# EAGLE library part 3-6437285-0 (library 3-6437285-0)
Body Features: Primary Product Color Black | Configuration Features: PCB Mount Orientation Horizontal | Number of Rows 4 | Number of Signal Positions 34 | Number of Positions 34 | Contact Features: Contact Size 1mm | Contact Type Pin | Mating Pin Diameter .039 INCH | Contact Mating Area Plating Material Gold | Mating Pin Diameter 1 MM | Dimensions: Profile Height from PCB .843 INCH | Connector Length 1.791 INCH | Profile Height from PCB 21.4 MM | Connector Width .906 INCH | Connector Length 45.5 MM | Connec Source: Datasheet <https://www.te.com/commerce/DocumentDelivery/DDEController?Action=srchrtrv&DocNm=1-1773950-7&DocType=Data Sheet&DocLang=English&PartCntxt=3-6437285-0&DocFormat=pdf>
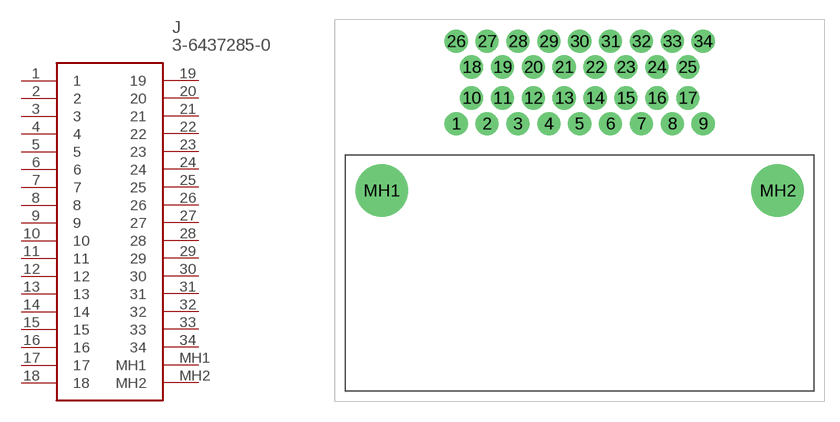
[diagram p0: symbol with the pads of 364372850; footprint 364372850]

Designator prefix J

## 3-6437285-0 (Description: Body Features: Primary Product Color Black | Configuration Features: PCB Mount Orientation Horizontal | Number of Rows 4 | Number of Signal Positions 34 | Number of Positions 34 | Contact Features: Contact Size 1mm | Contact Type Pin | Mating Pin Diameter .039 INCH | Contact Mating Area Plating Material Gold | Mating Pin Diameter 1 MM | Dimensions: Profile Height from PCB .843 INCH | Connector Length 1.791 INCH | Profile Height from PCB 21.4 MM | Connector Width .906 INCH | Connector Length 45.5 MM | Connec; Height: 28.2mm; Manufacturer_Name: TE Connectivity; Manufacturer_Part_Number: 3-6437285-0; Mouser_Part_Number: 571-3-6437285-0; Mouser_Price-Stock: https://www.mouser.co.uk/ProductDetail/TE-Connectivity/3-6437285-0?qs=WBj8811fzwFF9aG7dQQTdA%3D%3D)  [364372850]
1  1
2  2
3  3
4  4
5  5
6  6
7  7
8  8
9  9
10  10
11  11
12  12
13  13
14  14
15  15
16  16
17  17
18  18
19  19
20  20
21  21
22  22
23  23
24  24
25  25
26  26
27  27
28  28
29  29
30  30
31  31
32  32
33  33
34  34
MH1  MH1
MH2  MH2

## Footprint 364372850 (pad centres in mm)
3-6437285-0-3
drill 1.5 pad 2.25: 1 0,0; 2 3,0; 3 6,0; 4 9,0; 5 12,0; 6 15,0; 7 18,0; 8 21,0; 9 24,0; 10 1.5,2.5; 11 4.5,2.5; 12 7.5,2.5; 13 10.5,2.5; 14 13.5,2.5; 15 16.5,2.5; 16 19.5,2.5; 17 22.5,2.5; 18 1.5,5.5; 19 4.5,5.5; 20 7.5,5.5; 21 10.5,5.5; 22 13.5,5.5; 23 16.5,5.5; 24 19.5,5.5; 25 22.5,5.5; 26 0,8; 27 3,8; 28 6,8; 29 9,8; 30 12,8; 31 15,8; 32 18,8; 33 21,8; 34 24,8
drill 3.4 pad 5.1: MH1 -7.25,-6.5; MH2 31.25,-6.5